# EAGLE library part 7-SEGMENT (library 7-Segment)
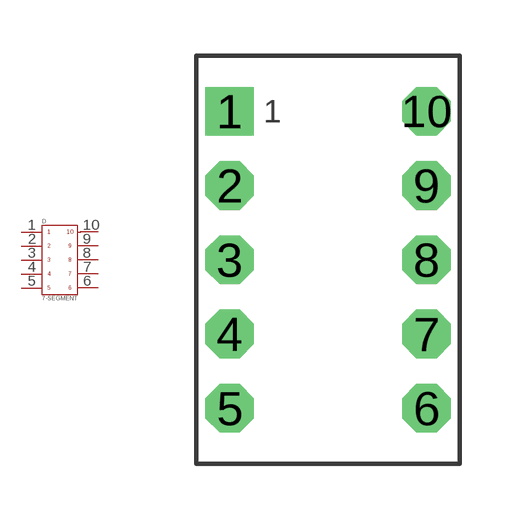
[diagram p0: symbol with the pads of HDSP-UXXX; footprint HDSP-UXXX]

Designator prefix D

## 7-SEGMENT(HDSP-UXXX)  [HDSP-UXXX]
1  1  pas
2  2  pas
3  3  pas
4  4  pas
5  5  pas
6  6  pas
7  7  pas
8  8  pas
9  9  pas
10  10  pas

## Footprint HDSP-UXXX (pad centres in mm)
drill 0.8 square: 1 -2.65,4
drill 0.8 octagon: 2 -2.65,2; 3 -2.65,0; 4 -2.65,-2; 5 -2.65,-4; 6 2.65,-4; 7 2.65,-2; 8 2.65,0; 9 2.65,2; 10 2.65,4